# Altium schematic symbol library Diversos.SchLib: 51 symbols
Pins are listed as number, name and electrical type; pins without a type are passive.

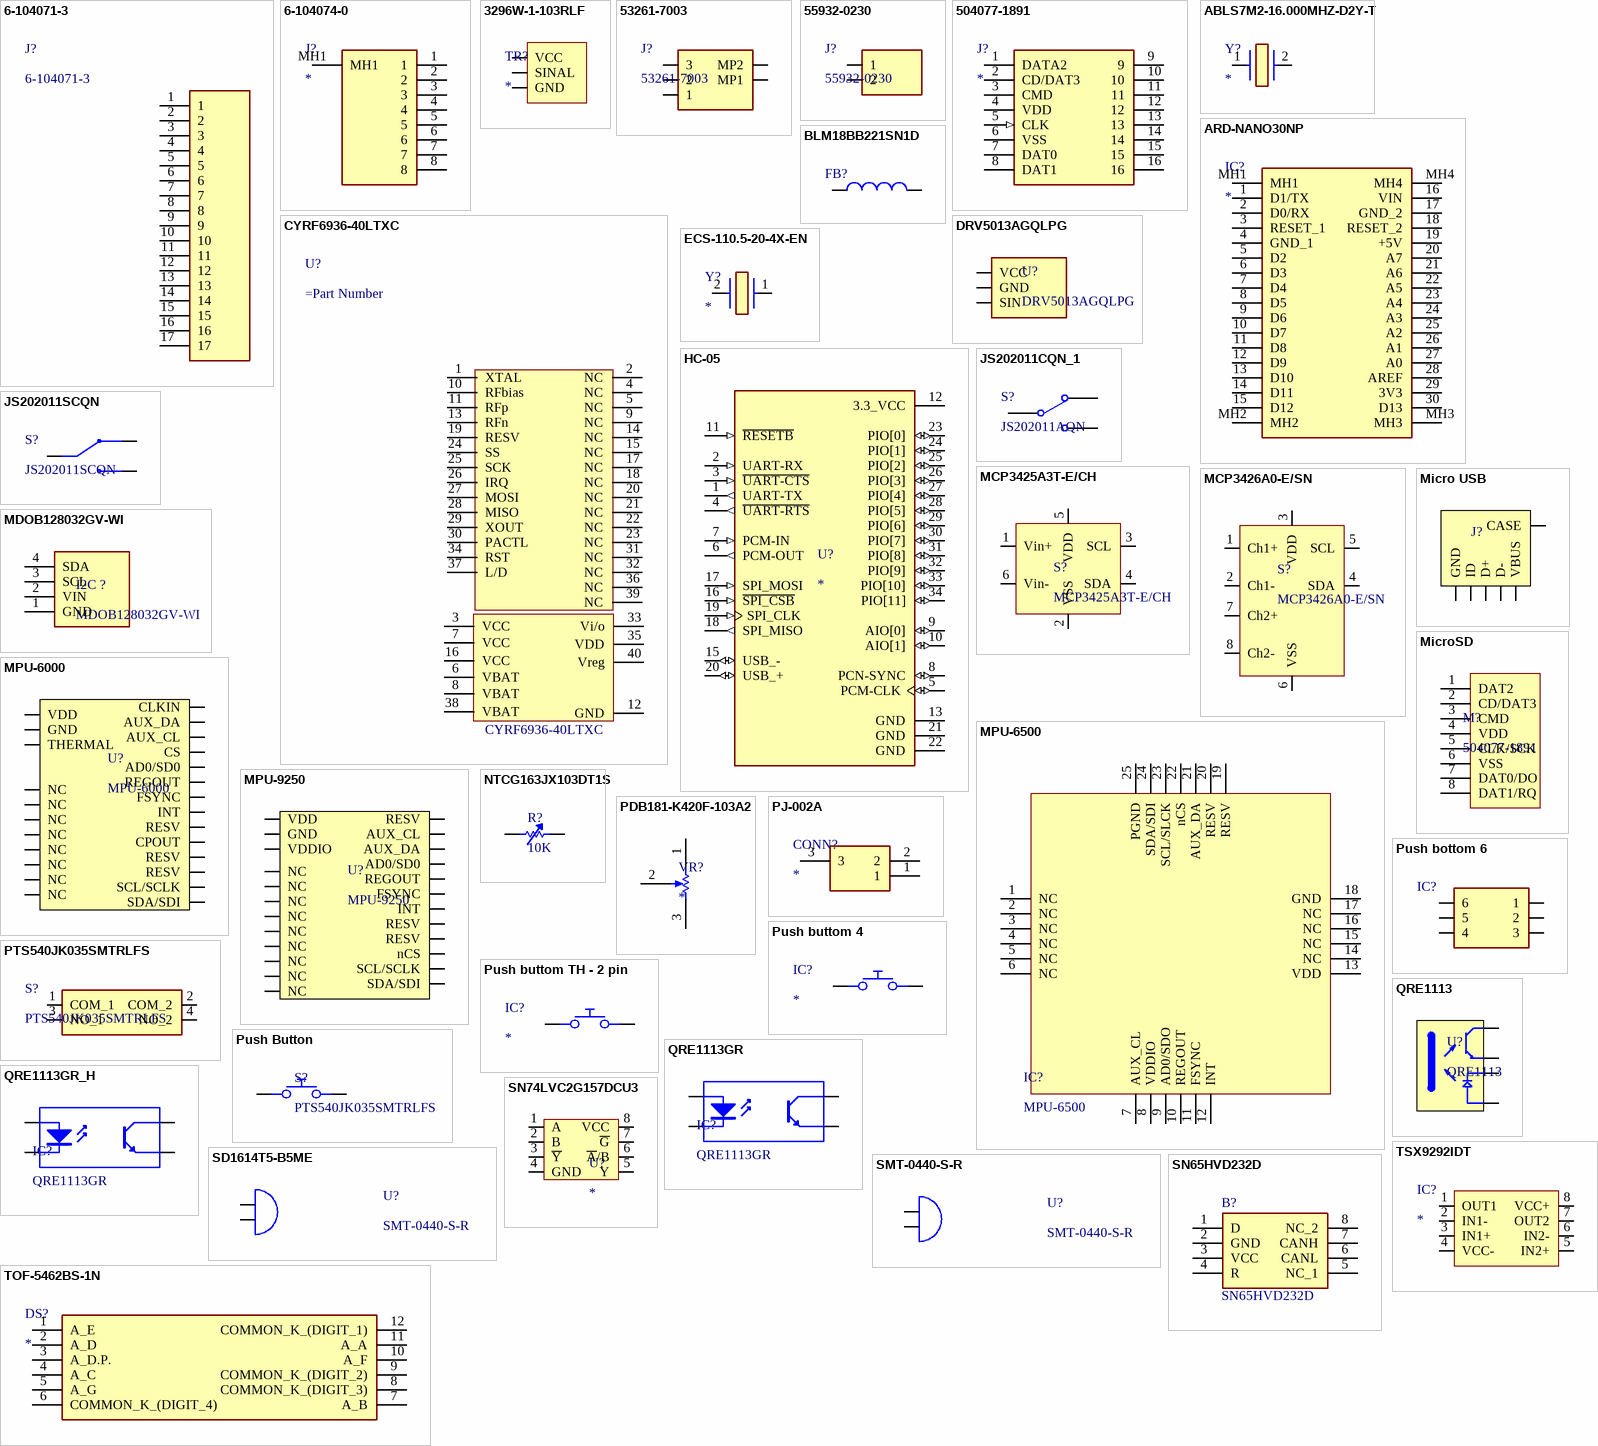
[diagram p0: symbols 6-104071-3 to TSX9292IDT]

## 6-104071-3
designator J?
Conectores placa placa e Mezzanine 17 SYSTEM 50 HDR SRST SHRD SN; Manufacturer_Name: TE Connectivity; Manufacturer Series: 104071; Connector Type: BOARD CONNECTOR; Option: General Purpose; Body/Shell Style: PLUG; Contact Pattern: RECTANGULAR; Contact Resistance: 15mR; Contact Style: RND PIN-SKT; Dielectric Withstanding Voltage (AC): 500V; Filter Feature: No; Insertion Force-Max: 1.39N; Insulation Resistance: 5GR; Number Of Connectors: 1; Polarization Key: CENTER; Number of Contacts: 17; Withdrawl Force-Min: 0.2224N; Body Breadth: 0.244inch; Body Depth: 0.39inch; Body Length: 1.094inch; Mating Contact Pitch: 0.05inch; Mounting Option 1: LOCKING; Plating Thickness: 30uin; Reference Standard: UL; Reliability: COMMERCIAL; Datasheet Link: https://www.te.com/commerce/DocumentDelivery/DDEController?Action=showdoc&DocId=Customer+Drawing%7F104071%7FR%7Fpdf%7FEnglish%7FENG_CD_104071_R.pdf%7F6-104071-3; Height: 9.99mm; Manufacturer_Part_Number: 6-104071-3; Supplier: Arrow Electronics; Supplier Part Number: 6-104071-3; Manufacturer: TE Connectivity; Manufacturer Part Number: 6-104071-3; RoHS: Yes; Category: Connectors; Stock: 1311; Pricing: 19=3,652, 114=3,509, 266=3,233, 513=3,014 (USD); Mounting Technology: Board; Contact Material: Bronze; Contact Finish - Mating: NOT SPECIFIED; Contact Finish - Termination: TIN OVER NICKEL; Insulation Color: Black; Insulation Material: Glass; Min Operating Temperature: -65°C; Max Operating Temperature: 105°C; JESD-609 Code: e3; Contact Gender: Male; Mixed Contacts: No; Mounting Style: STRAIGHT; Number Of PCB Rows: 1; Number of Rows Loaded: 1; PCB Contact Pattern: RECTANGULAR; Termination: Solder; Terminal Length: 0.1inch; Terminal Pitch: 1.27mm; DIN Conformance: No; IEC Conformance: No; MIL Conformance: No; Reach SVHC Compliant: Yes; RoHS Compliant: Yes; ComponentLink1URL: https://www.te.com:443/usa-en/product-6-104071-3.html?src-supplier=IHS+Markit; ComponentLink1Description: https://www.te.com:443/usa-en/product-6-104071-3.html?src-supplier=IHS+Markit; ComponentLink2URL: https://datasheet.ciiva.com/409/eng-cd-104071-p-basefilename-409577.pdf?src-supplier=Digikey; ComponentLink2Description: https://datasheet.ciiva.com/409/eng-cd-104071-p-basefilename-409577.pdf?src-supplier=Digikey
footprint 61040713
pins: 1, 2, 3, 4, 5, 6, 7, 8, 9, 10, 11, 12, 13, 14, 15, 16, 17

## 6-104074-0
designator J?
Connector; Manufacturer_Name: TE Connectivity; Manufacturer_Part_Number: 6-104074-0; Datasheet Link: https://www.te.com/commerce/DocumentDelivery/DDEController?Action=showdoc&DocId=Customer+Drawing%7F104074%7FV%7Fpdf%7FEnglish%7FENG_CD_104074_V.pdf%7F6-104074-0; Height: 6.48mm; Arrow Part Number: 6-104074-0; Arrow Price/Stock: https://www.arrow.com/en/products/6-104074-0/te-connectivity
footprint 6-104074-0
pins: 1, 2, 3, 4, 5, 6, 7, 8, MH1

## 3296W-1-103RLF
designator TR?
Trimmer Resistor; Manufacturer: Bourns; Manufacturer_Part_Number: 3296W-1-103RLF; Mouser Part Number: 652-3296W-1-103RLF; Arrow Price/Stock: https://www.arrow.com/en/products/3296w-1-103rlf/bourns?region=nac; ComponentLink1Description: Mouser Link; ComponentLink1URL: https://www.mouser.com/ProductDetail/Bourns/3296W-1-103RLF?qs=2bTIwLLrckTSiNyA4dRdUg%3D%3D
footprint 3296W-1_TRIMMER
pins: PIN1 VCC, PIN2 SINAL, PIN3 GND

## 53261-7003
designator J?
Connector 1.25mm; Manufacturer: Molex; Library Control - Person that did the Last Update Footprint: Pierre; Part Number: 53261-7003; Height: 3.4mm; ComponentLink1Description: Mouser Link; ComponentLink1URL: https://br.mouser.com/ProductDetail/Molex/53261-7003?qs=0lSvoLzn4L%252ByXluk5e2iEQ%3D%3D; ComponentLink2Description: Datasheet Link; ComponentLink2URL: https://br.mouser.com/datasheet/2/276/2/0532617003_PCB_HEADERS-1906897.pdf; Library Control - Person that did the Last Update Schematic: Pierre
footprint 532617003
pins: 1, 2, 3, MP1, MP2

## 55932-0230
designator J?
Connector 3A 250V; Manufacturer: Molex; Library Control - Person that did the Last Update Footprint: Pierre; Part Number: 55932-0230; Operating Temperature: -25C ~ +105C; ComponentLink1Description: Mouser Link; ComponentLink1URL: https://br.mouser.com/ProductDetail/Molex/55932-0230?qs=9Wl4wMk6Njr3Nh%252Bv5Cn1PQ%3D%3D; ComponentLink2Description: Datasheet Link; ComponentLink2URL: https://br.mouser.com/datasheet/2/276/3/0559320230_PCB_HEADERS-2833187.pdf; Current Rating: 3A; Voltage Rating: 250 V; Library Control - Person that did the Last Update Schematic: Pierre
footprint 55932-0230
pins: 1, 2

## 504077-1891
designator J?
Connector; Manufacturer_Name: Molex; Manufacturer_Part_Number: 504077-1891; Datasheet Link: https://componentsearchengine.com//504077-1891.pdf; Height: 1mm; Mouser2 Part Number: 538-504077-1891; Mouser2 Price/Stock: https://www.mouser.com/Search/Refine.aspx?Keyword=538-504077-1891
pins: 1 DATA2, 2 CD/DAT3, 3 CMD, 4 VDD (power), 5 CLK (in), 6 VSS (power), 7 DAT0, 8 DAT1, 9, 10, 11, 12, 13, 14, 15, 16

## ABLS7M2-16.000MHZ-D2Y-T
designator Y?
Crystal or Oscillator; Manufacturer_Name: ABRACON; Manufacturer_Part_Number: ABLS7M2-16.000MHZ-D2Y-T; Datasheet Link: https://abracon.com/Resonators/ABLS7M2.pdf; Height: 2.3mm; Mouser Part Number: 815-ABLS7M216MHZD2YT; Mouser Price/Stock: https://www.mouser.co.uk/ProductDetail/ABRACON/ABLS7M2-16.000MHZ-D2Y-T?qs=r5DSvlrkXmLBsAJ1cVK5MQ%3D%3D
footprint ABLS7
pins: 1, 2

## ARD-NANO30NP
designator IC?
Integrated Circuit; Manufacturer_Name: Gravitech; Manufacturer_Part_Number: ARD-NANO30NP; Datasheet Link: http://www.mouser.com/datasheet/2/595/Arduino_Nano3_0-220057.pdf; Height: 5mm; Mouser Part Number: 992-ARD-NANO30NP; Mouser Price/Stock: https://www.mouser.co.uk/ProductDetail/Gravitech/ARD-NANO30NP?qs=Vxac6xGyzPlh7in3DWNTbQ%3D%3D
pins: 1 D1/TX, 2 D0/RX, 3 RESET_1, 4 GND_1, 5 D2, 6 D3, 7 D4, 8 D5, 9 D6, 10 D7, 11 D8, 12 D9, 13 D10, 14 D11, 15 D12, 16 VIN, 17 GND_2, 18 RESET_2, 19 +5V, 20 A7, 21 A6, 22 A5, 23 A4, 24 A3, 25 A2, 26 A1, 27 A0, 28 AREF, 29 3V3, 30 D13, MH1, MH2, MH3, MH4

## BLM18BB221SN1D
designator FB?, comment 220R  (value not drawn)
FERRITE BEADS 220 OHM 25% 0.450A 0603; Manufacturer: Murata; Part Number: BLM18BB221SN1D; DC Resistance (Max): 450mR; Test Frequency: 100MHz; Current Rating (Max): 450mA; Library Control - Checked Footprint: Yes; Library Control - Last Project that Used: Follow-Final; Library Control - Person that Checked Footprint: Lucas; Library Control - Person that did the Last Update Footprint: Mateus(Dimas); Supplier 1: Mouser; Category: Ferrite Beads; Price: 1=0,10000, 10=0,07900, 100=0,04750 (USD); Package / Case: 0603 (1608 Metric); Operating Temperature: -55°C ~ 125°C; Value: 220R; Tolerance: 25%; Supplier Part Number 1: 81-BLM18BB221SN1D; Library Ref: Ferrite Beads; Size / Dimension: 1.6 mm L x  0.8 mm W x  0.8 mm H; Library Control - Checked Schematic: Yes; Library Control - Last Update: 24/04/2021 00:25; Library Control - Person that Checked Schematic: Lucas; Library Control - Person that did the Last Update Schematic: Mateus(Dimas); ComponentLink1Description: Datasheet; ComponentLink1URL: https://www.mouser.com/datasheet/2/281/ENFA0003-1915778.pdf; ComponentLink2Description: Mouser Link; ComponentLink2URL: https://www.mouser.com/ProductDetail/Murata-Electronics/BLM18BB221SN1D?qs=%2Fha2pyFadujXusLUPa7XwiO7x8JP5OqyGPyEjVcW%252Bu%252B5sAZk3PVlbA%3D%3D
footprint BEAD0603 (Ferrite Bead, Chip; 1.60 mm L X 0.80 mm W X 0.95 mm H body)
pins: 1, 2

## CYRF6936-40LTXC
designator U?
Transmissor-Receptor RF Wireless USB
pins: 1 XTAL, 2 NC, 3 VCC, 4 NC, 5 NC, 6 VBAT, 7 VCC, 8 VBAT, 9 NC, 10 RFbias, 11 RFp, 12 GND, 13 RFn, 14 NC, 15 NC, 16 VCC, 17 NC, 18 NC, 19 RESV, 20 NC, 21 NC, 22 NC, 23 NC, 24 SS, 25 SCK, 26 IRQ, 27 MOSI, 28 MISO, 29 XOUT, 30 PACTL, 31 NC, 32 NC, 33 Vi/o, 34 RST, 35 VDD, 36 NC, 37 L/D, 38 VBAT, 39 NC, 40 Vreg

## DRV5013AGQLPG
designator U?
Hall Sensor; Sensitivity: +/- 45°; Output Type: Digital; Operating Supply Current: 0.4 mA; Supply Voltage (Min - Máx): (2.7 - 5.5)V; Library Control - Person that did the Last Update in Footprint: Marcos; ComponentLink1Description: Datasheet; ComponentLink1URL: https://datasheetspdf.com/pdf-file/700398/ETC/VS1838B/1; ComponentLink2Description: Mouser Link; ComponentLink2URL: -; Part Number: DRV5013AGQLPG; Sensor Type: Hall Sensor; Price: -; Package / Case: -; Operating Temperature (Min - Máx): -20~80 °C; Supplier 1: -; Manufacturer: -; Library Ref: Diversos; Library Control - Last Update: 06/08/2021; Library Control - Person that did the Last Update in Schematic: Marcos
footprint SENSOR_DRV5055A2QLPGM
pins: 1 VCC, 2 GND, 3 SIN

## ECS-110.5-20-4X-EN
designator Y?
Crystal or Oscillator; Manufacturer_Name: ECS; Manufacturer_Part_Number: ECS-110.5-20-4X-EN; Datasheet Link: https://ecsxtal.com/store/pdf/hc-49usx.pdf; Height: 3.5mm
footprint ECS1105204XEN
pins: 1, 2 CRYSTAL_2

## HC-05
designator U?
Bluetooth to Serial Port Module; MP: HC-05; Value: *; Price: None; Package: None; Availability: Unavailable
pins: 1 UART-TX (out), 2 UART-RX (in), 3 ~{UART-CTS} (in), 4 ~{UART-RTS} (out), 5 PCM-CLK (io), 6 PCM-OUT (out), 7 PCM-IN (in), 8 PCN-SYNC (io), 9 AIO[0] (io), 10 AIO[1] (io), 11 ~{RESETB} (in), 12 3.3_VCC (power), 13 GND (power), 15 USB_- (io), 16 ~{SPI_CSB} (in), 17 SPI_MOSI (in), 18 SPI_MISO (out), 19 SPI_CLK (in), 20 USB_+ (io), 21 GND (power), 22 GND (power), 23 PIO[0] (io), 24 PIO[1] (io), 25 PIO[2] (io), 26 PIO[3] (io), 27 PIO[4] (io), 28 PIO[5] (io), 29 PIO[6] (io), 30 PIO[7] (io), 31 PIO[8] (io), 32 PIO[9] (io), 33 PIO[10] (io), 34 PIO[11] (io)

## JS202011CQN_1
designator S?, comment JS202011AQN
SLIDE SWITCH DPDT 0.3A 30VDC THRU ROLE; Manufacturer: C&K Switches; Voltage Rating (DC): 6VDC; Current Rating: 300mA; Switch Function: On-On; Library Control - Checked Footprint: Yes; Library Control - Last Project that Used: Follow-Final; Library Control - Person that did the Last Update Footprint: Lucas; Supplier 1: Mouser; Part Number: JS202011AQN; Category: Slide Switches; Pricing 1: 1=0,450, 25=0,421, 100=0,357 (USD); Throw Configuration: DPDT; Orientation: Horizontal; Supplier Part Number 1: 611-JS202011AQN; Library Ref: Slide Switches; Library Control - Checked Schematic: Yes; Library Control - Last Update: 30/10/2021 23:13; Library Control - Person that did the Last Update Schematic: Lucas; ComponentLink1Description: Datasheet; ComponentLink1URL: https://br.mouser.com/datasheet/2/60/js-1841892.pdf; ComponentLink2Description: Mouser Link; ComponentLink2URL: https://br.mouser.com/ProductDetail/CK/JS202011CQN?qs=%2Fha2pyFadujEk0HYYCwwdCngFEJLgpLwbgeFG0CLXqejQrlcBWDxEg%3D%3D
footprint SOIC6_THRU_HOLE
pins: 1, 2 NO, C COMMON

## JS202011SCQN
designator S?
DEEP SWITCH 4 POSITIONS; Manufacturer: C&K; Current Rating: 300 mA; Voltage Rating DC: 30 VDC; Switch Function: ON - ON; Library Control - Checked Footprint: Yes; Library Control - Person that Checked Footprint: Nikaum; Part Number: JS202011SCQN; Operating Temperature(max - min): -20~70°C; Supplier: Mouser; ComponentLink1Description: Mouser Link; ComponentLink1URL: https://br.mouser.com/ProductDetail/CK/JS202011SCQN?qs=LgMIjt8LuD95JYWxZ7NvZA%3D%3D; ComponentLink2Description: Datasheet Link; ComponentLink2URL: https://www.mouser.com/datasheet/2/60/js-1841892.pdf; Mouser Part Number: 611-JS202011SCQN; Library Ref: Diversos; Library Control - Last Update: 15/06/2021; Library Control - Person that Checked Schematic: Nikaum; Library Control - Person that did the Last Update Footprint: Nikaum; Library Control - Person that did the Last Update Schematic: Nikaum; Library Control - Checked Schematic: Yes
footprint DPDT
pins: A1 1, A2 4, A3 3

## MCP3425A3T-E/CH
designator S?
ADC WITH I2C Single channel; Manufacturer: Microchip; Resolution: 16bits; Channels: 1; Library Control - Checked Footprint: Yes; Library Control - Person that Checked Footprint: Bob; Part Number: MCP3425A3T-E/CH; Operating Temperature(max - min): -40~125°C; Supplier: Mouser; ComponentLink1Description: Mouser Link; ComponentLink1URL: https://br.mouser.com/ProductDetail/Microchip-Technology/MCP3425A3T-E-CH?qs=OCR3PNzn1cdvcuGtJJWFOw%3D%3D; ComponentLink2Description: Datasheet Link; ComponentLink2URL: https://br.mouser.com/datasheet/2/268/22072b-737551.pdf; Mouser Part Number: 579-MCP3426A0E/SN; Library Ref: Diversos; Library Control - Last Update: 11/09/2021; Library Control - Person that Checked Schematic: Bob; Library Control - Person that did the Last Update Footprint: Bob; Library Control - Person that did the Last Update Schematic: Bob; Library Control - Checked Schematic: Yes
footprint SOT23__6 (SOT23, 6-Leads, Body 2,90x2,70mm, Pitch 0,95mm, IPC Medium Density)
pins: 1 Vin+ (oe), 2 VSS (power), 3 SCL (oe), 4 SDA (oe), 5 VDD (power), 6 Vin- (power)

## MCP3426A0-E/SN
designator S?
ADC WITH I2C Dual channel; Manufacturer: Microchip; Resolution: 16bits; Channels: 2; Library Control - Checked Footprint: Yes; Library Control - Person that Checked Footprint: Bob; Part Number: MCP3426A0-E/SN; Operating Temperature(max - min): -40~125°C; Supplier: Mouser; ComponentLink1Description: Mouser Link; ComponentLink1URL: https://br.mouser.com/ProductDetail/Microchip-Technology/MCP3426A0-E-SN?qs=icxrp76fIjCAC6FqOOR0uQ%3D%3D; ComponentLink2Description: Datasheet Link; ComponentLink2URL: https://br.mouser.com/datasheet/2/268/22226a-81911.pdf; Mouser Part Number: 579-MCP3426A0E/SN; Library Ref: Diversos; Library Control - Last Update: 11/09/2021; Library Control - Person that Checked Schematic: Bob; Library Control - Person that did the Last Update Footprint: Bob; Library Control - Person that did the Last Update Schematic: Bob; Library Control - Checked Schematic: Yes
footprint SOIC____8
pins: 1 Ch1+ (oe), 2 Ch1- (power), 3 VDD (power), 4 SDA (oe), 5 SCL (oe), 6 VSS (power), 7 Ch2+ (oe), 8 Ch2- (power)

## MDOB128032GV-WI
designator I2C ?
Oled Display, Cob, 128 X 32 Pixel, 3V Rohs Compliant: Yes; Manufacturer: Midas; Supplier: Newark; Supplier Part Number: 69AH1025; Manufacturer Part Number: MDOB128032GV-WI; RoHS: No; Category: LDO; Pricing: 1=10,72, 10=9,66, 25=8,79, 50=8,18, 140=7,63, 280=6,42, 560=6,21 (USD)
footprint MDOB128032GVWI
pins: 1 GND, 2 VIN, 3 SCL, 4 SDA

## Micro USB
designator J?, comment 54819-0572  (value not drawn)
JACK  MICRO USB 5 PIN SMD; Manufacturer: Molex; Gender: Jack (Female); Number of Contacts: 5; Number of Ports: 1; Current Rating: 1A; Library Control - Checked Footprint: Yes; Library Control - Person that Checked Footprint: Nikaum; Voltage Rating: 30V; ComponentLink1Description: Datasheet; ComponentLink1URL: https://www.mouser.com/datasheet/2/276/0548190572_IO_CONNECTORS-228789.pdf; ComponentLink2Description: Mouser Link; ComponentLink2URL: https://www.mouser.com/ProductDetail/Molex/54819-0572?qs=%2Fha2pyFaduhSjmXTlh7uTKb4u%252BU9CG7lIY8IPbUrigz%252BPRMQHLgocQ%3D%3D&utm_source=octopart&utm_medium=aggregator&utm_campaign=538-54819-0572&utm_content=Molex; Part Number: 54819-0572; Price: 1=1,40, 10=1,20 100=1,03 500 = 0,981 (USD); Termination Type: SMD/SMT; Supplier 1: Mouser; Library Ref: Diversos; Supplier Part Number 1: 538-54819-0572; Library Control - Checked Schematic: Yes; Library Control - Last Update: 15/06/2021; Library Control - Person that Checked Schematic: Nikaum; Library Control - Person that did the Last Update in the Schematic: Nikaum; Library Control - Person that did the Last Update in Footprint: Nikaum; Operating Temperature: -20~85°C
footprint Micro USB
pins: CASE, D+, D-, GND, ID, VBUS

## MicroSD
designator M?, comment 504077-1891
Memory Card Connectors 1.28MM microSD W/ DET SWITCH PUSH/PULL; Current Rating:: 500 mA; Voltage Rating: 10 VAC/DC; Insertion - Extraction Style:: Push-Pull; Link Mouser: https://www.mouser.com/ProductDetail/Molex/504077-1891?qs=sGAEpiMZZMuJakaoiLiBpjAZE32GLbPV14vUl7eUuSw%3d; Mfr: 504077-1891; Mouser: 538-504077-1891
footprint MicroSD
pins: 1 DAT2, 2 CD/DAT3, 3 CMD, 4 VDD, 5 CLK/SCK, 6 VSS, 7 DAT0/DO, 8 DAT1/RQ

## MPU-6000
designator U?
IMU 6 AXIS; Manufacturer: TDK; Sensor Type: 9 axis; Sensing Axis: X, Y, Z; Sensitivity: 340 LSB/C; Aceleration: 1000g; Output Type: Digital; Interferance Type: I2C, SPI; Operating Supply Current: 3.9 mA; Supply Voltage (Min - Máx): (2.375 - 3.46)V; ComponentLink1Description: Datasheet; ComponentLink1URL: https://product.tdk.com/system/files/dam/doc/product/sensor/mortion-inertial/imu/data_sheet/mpu-6000-datasheet1.pdf; ComponentLink2Description: Mouser Link; ComponentLink2URL: https://www.mouser.com/ProductDetail/TDK-InvenSense/MPU-6000?qs=u4fy%2FsgLU9NMLimeLRzXLA%3D%3D; Part Number: MPU-6000; Price: 1=10,42, 10=7,72, 100=6,68, 500=6,05, 1000=5,84 (USD); Package / Case: Lead QFN (4x4x0.9) mm; Operating Temperature (Min - Máx): -40~105 °C; Supplier 1: Mouser; Library Ref: Diversos
footprint QFN 24 PIN THERMAL PAD (QFN, 24-Leads, Body 4,00x4,00mm, Pitch 0,50mm, Thermal Pad 2,70x2,60mm, IPC Medium Density)
pins: 1 CLKIN, 2 NC, 3 NC, 4 NC, 5 NC, 6 AUX_DA, 7 AUX_CL, 8 CS, 9 AD0/SD0, 10 REGOUT, 11 FSYNC, 12 INT, 13 VDD, 14 NC, 15 NC, 16 NC, 17 NC, 18 GND, 19 RESV, 20 CPOUT, 21 RESV, 22 RESV, 23 SCL/SCLK, 24 SDA/SDI, 25 THERMAL

## MPU-6500
designator IC?
IC IMU QFN-24; Manufacturer: TDK InvenSense; Sensitivity Accelerometer: 16,384 LSB/g; Operating Current: 3.4mA; Interface: I2C,SPI; Sensor Type: Accelerometer,Gyroscope; Output Type: SPI,I2C; Voltage - Supply (Vcc/Vdd): 1.8V ~ 3.45V; Sensitivity Gyroscope: 131 LSB/(º/s); Output Data Rate: 4 ~8kHz; Library Control - Checked Footprint: Yes; Library Control - Last Project that Used: Follow-Final; Library Control - Person that Checked Footprint: Lucas; Library Control - Person that did the Last Update Footprint: Mateus(Dimas); Supplier 1: Mouser; Part Number: MPU-6500; Category: IMU; Price: 1=10,70000, 10=6,25000, 100=4,44000 (USD); Package / Case: QFN; Number of Pins: 24; Operating Temperature: -40°C ~ 85°C; Supplier Part Number 1: 410-MPU-6500; Library Ref: IMU; Library Control - Checked Schematic: Yes; Library Control - Last Update: 24/04/2021 00:25; Library Control - Person that Checked Schematic: Lucas; Library Control - Person that did the Last Update Schematic: Mateus(Dimas); ComponentLink1Description: Datasheet; ComponentLink1URL: https://product.tdk.com/system/files/dam/doc/product/sensor/mortion-inertial/imu/data_sheet/mpu-6500-datasheet2.pdf; ComponentLink2Description: Mouser Link; ComponentLink2URL: https://br.mouser.com/ProductDetail/TDK-InvenSense/MPU-6500?qs=%2Fha2pyFaduiFYun0tbEnCyCEEjzUGy3WfinWkz%252Bf8Ic%3D
footprint QFN24 (3x3x1) mm
pins: 1 NC, 2 NC, 3 NC, 4 NC, 5 NC, 6 NC, 7 AUX_CL, 8 VDDIO, 9 AD0/SDO, 10 REGOUT, 11 FSYNC, 12 INT, 13 VDD, 14 NC, 15 NC, 16 NC, 17 NC, 18 GND, 19 RESV, 20 RESV, 21 AUX_DA, 22 nCS, 23 SCL/SLCK, 24 SDA/SDI, 25 PGND

## MPU-9250
designator U?
IMU 9 AXIS; Manufacturer: TDK InvenSense; Sensor Type: 9 axis; Sensing Axis: X, Y, Z; Sensitivity: 333.87 LSB/°C; Aceleration: 10000 g; Output Type: Digital; Interferance Type: I2C, SPI; Operating Supply Current: 3.7 mA; Supply Voltage (Min - Máx): (2.4 - 3.6)V; Library Control - Checked Footprint: Yes; Library Control - Person that Checked Footprint: Nikaum; ComponentLink1Description: Datasheet; ComponentLink1URL: https://product.tdk.com/system/files/dam/doc/product/sensor/mortion-inertial/imu/data_sheet/ps-mpu-9250a-01-v1.1.pdf; ComponentLink2Description: Mouser Link; ComponentLink2URL: https://br.mouser.com/ProductDetail/TDK-InvenSense/MPU-9250?qs=u4fy%2FsgLU9OhGjFkQSZssA%3D%3D; Part Number: MPU-9250; Package / Case: Lead QFN (3x3x1) mm; Operating Temperature (Min - Máx): -40~85 °C; Supplier 1: Mouser; Library Ref: Diversos; Library Control - Checked Schematic: Yes; Library Control - Last Update: 15/06/2021; Library Control - Person that Checked Schematic: Nikaum; Library Control - Person that did the Last Update in Footprint: Nikaum; Library Control - Person that did the Last Update in Schematic: Nikaum
footprint QFN24 (3x3x1) mm
pins: 1 RESV, 2 NC, 3 NC, 4 NC, 5 NC, 6 NC, 7 AUX_CL, 8 VDDIO, 9 AD0/SD0, 10 REGOUT, 11 FSYNC, 12 INT, 13 VDD, 14 NC, 15 NC, 16 NC, 17 NC, 18 GND, 19 RESV, 20 RESV, 21 AUX_DA, 22 nCS, 23 SCL/SCLK, 24 SDA/SDI

## NTCG163JX103DT1S
designator R?, comment 10K
Thermistor NTC SMD 10K OHM 0.5%  0603; Manufacturer: TDK; Manufacturer Part Number: NTCG163JX103DT1S; Value: 10kR; Supplier: Mouser; Supplier Part Number: 810-NTCG163JX103DT1S; RoHS: No; Category: Thermistors; Stock: 23090; Pricing: 1=0,41, 10=0,265, 50=0,265, 100=0,226, 1000=0,168, 10000=0,134 (USD); Mounting Technology: Surface Mount; Case/Package: 0603; Case Code (Metric): 1608; Case Code (Imperial): 0603; Min Operating Temperature: -40°C; Max Operating Temperature: 150°C; Packaging: Cut Tape; Series: Automotive, AEC-Q200, NTCG; Resistance Tolerance: 0.5%; Length: 1.6mm; Width: 800um; RoHS Compliant: Yes; ComponentLink1URL: https://product.tdk.com/info/en/catalog/datasheets/503022/tpd_automotive_ntc-thermistor_ntcg_en.pdf?ref_disty=digikey&src-supplier=Digi-Key; ComponentLink1Description: https://product.tdk.com/info/en/catalog/datasheets/503022/tpd_automotive_ntc-thermistor_ntcg_en.pdf?ref_disty=digikey&src-supplier=Digi-Key; ComponentLink2URL: https://product.tdk.com/info/en/catalog/datasheets/503022/tpd_automotive_ntc-thermistor_ntcg_en.pdf?src-supplier=Digi-Key; ComponentLink2Description: https://product.tdk.com/info/en/catalog/datasheets/503022/tpd_automotive_ntc-thermistor_ntcg_en.pdf?src-supplier=Digi-Key; ComponentLink3Description: Mouser; ComponentLink3URL: https://br.mouser.com/ProductDetail/TDK/NTCG163JX103DT1S?qs=cNoPOocMWw12jzbe5%2FwkmA%3D%3D; ComponentLink4Description: Datasheet; ComponentLink4URL: https://product.tdk.com/system/files/dam/doc/product/sensor/ntc/chip-ntc-thermistor/catalog/tpd_automotive_ntc-thermistor_ntcg_en.pdf
footprint RESISTOR_0603
pins: 1, 2

## PDB181-K420F-103A2
designator VR?
Variable Resistor; Manufacturer_Name: Bourns; Height: 21mm; Mouser Price/Stock: https://www.mouser.co.uk/ProductDetail/Bourns/PDB181-K420F-103A2?qs=HVbQlW5zcXU4kIrRlkm6hQ%3D%3D; Arrow Part Number: PDB181-K420F-103A2; Arrow Price/Stock: https://www.arrow.com/en/products/pdb181-k420f-103a2/bourns?region=nac
footprint PDB181K420F103A2
pins: 1, 2, 3

## PJ-002A
designator CONN?
Connetor J; Manufacturer_Name: CUI Devices; Manufacturer_Part_Number: PJ-002A; Type: Connector; Mouser Part Number: 490-PJ-002A; ComponentLink1Description: Mouser Link; ComponentLink1URL: https://www.mouser.com/ProductDetail/CUI-Devices/PJ-002A?qs=WyjlAZoYn51CKfAix9Mngw%3D%3D
footprint PJ002A_CONECTOR_J
pins: 1, 2, 3

## PTS540JK035SMTRLFS
designator S?
Tactile Switche; Manufacturer: C&K; Current Rating: 30 mA; Voltage Rating: 12 V; Library Control - Person that did the Last Update Schematic: Pierre; Part Number: PTS540JK035SMTRLFS; ComponentLink1Description: Mouser Link; ComponentLink1URL: https://br.mouser.com/ProductDetail/CK/PTS540JK035SMTRLFS?qs=nsc5Ve2%252BdoHscnqTjIh87g%3D%3D; ComponentLink2Description: Datasheet Link; ComponentLink2URL: https://br.mouser.com/datasheet/2/60/pts540-1841856.pdf; Operating Temperature: -30C ~ +85C; Library Control - Person that did the Last Update Footprint: Pierre
footprint PTS540JK035SMTRLFS
pins: 1 COM_1, 2 COM_2, 3 NO_1, 4 NO_2

## Push bottom 6
designator IC?
Push bottom 6 posições
footprint MHPS2283 (Pushbutton)
pins: 1, 2, 3, 4, 5, 6

## Push buttom 4
designator IC?
Push buttom; Manufacturer_Name: CUI Inc.; Manufacturer_Part_Number: TS02-66-90-BK-100-SCR-D; Datasheet Link: https://www.cuidevices.com/product/resource/ts02.pdf; Height: 9.2mm
footprint TS026690BK100SCRD
pins: 1, 2

## Push buttom TH - 2 pin
designator IC?
Push buttom true hole with 2 pin; Manufacturer_Name: CUI Inc.; Manufacturer_Part_Number: TS02-66-90-BK-100-SCR-D; Height: 9.2mm; ComponentLink1Description: Datasheet; ComponentLink1URL: https://www.gravitech.us/mipubusw2qt4.html
footprint BUTTON - TH - 2PIN
pins: 1, 2

## Push Button
designator S?, comment PTS540JK035SMTRLFS
TACTILE SWITCH SPST 0.05A 12VDC SMD; Manufacturer: C&K Switches; Voltage Rating (DC): 12V; Current Rating: 50mA; Switch Function: Off-On; Operating Force: 230gf; Library Control - Checked Footprint: Yes; Library Control - Person that Checked Schematic: Nícolas; Bounce time (MAX): 10ms; ComponentLink1Description: Datasheet; ComponentLink1URL: https://www.mouser.com/datasheet/2/60/pts540-1841856.pdf; ComponentLink2Description: Mouser Link; ComponentLink2URL: https://www.mouser.com/ProductDetail/CK/PTS540JK035SMTRLFS?qs=nsc5Ve2%252BdoHscnqTjIh87g%3D%3D; Supplier 1: Mouser; Part Number: PTS540JK035SMTRLFS; Category: Tactile Switches; Pricing 1: 1=0,18, 10=0,174, 100=0,15, 500=0,122, 1000=0,103 (USD); Throw Configuration: SPST; Orientation: Straight; Supplier Part Number 1: 611-PTS540JK035SMTRL; Library Ref: Diversos; Library Control - Checked Schematic: Yes; Library Control - Person that Checked Footprint: Nícolas; Library Control - Person that did the Last Update Schematic: Nícolas
footprint PUSH_BUTTON
pins: 1, 2

## QRE1113
designator U?
PHOTOTRANSISTORQRE1113 - 1CH - Tube; Manufacturer: ON Semiconductor; Sensing Distance: 1 mm; Collector - Emitter Voltage VCEO Max: 30 V; Maximum Collector Current: 20 mA; Sensing Method: Reflective; Power Dissipation: 75 mW; Vf - Forward Voltage: 1,2 V; Vr - Reverse Voltage: 5 V; Library Control - Checked Footprint: Yes; Library Control - Person that Checked Footprint: Nikaum; Fall time: 20 us; Number of Channels: 1; ComponentLink1Description: Datasheet; ComponentLink1URL: https://www.mouser.com/datasheet/2/308/1/QRE1113_D-2319742.pdf; ComponentLink2Description: Mouser Link; ComponentLink2URL: https://www.mouser.com/ProductDetail/ON-Semiconductor-Fairchild/QRE1113GR?qs=Qb0BA3xILekkPpSVC5x7uQ%3D%3D; Part Number: QRE1113; Price: 1=1.36, 10=1.13, 100=0.639 (USD); Mounting Style: Through Hole; Output Type: Phototransistor; Operating Temperature (Min - Máx): -40~85 °C; Supplier 1: Mouser; Library Ref: Diversos; Library Control - Checked Schematic: Yes; Library Control - Last Update: 15/06/2021; Library Control - Person that Checked Schematic: Nikaum; Library Control - Person that did the Last Update in Footprint: Nikaum; Library Control - Person that did the Last Update in Schematic: Nikaum; Packaging: Tube; If - Forward Current: 20 mA
footprint QRE1113
pins: A, C, CT, ET

## QRE1113GR
designator IC?
IC IR-SENSOR; Manufacturer: ON Semiconductor; Wavelength: 940nm; If - Forward Current Max: 50mA; Rise Time: 20us; Vf - Forward Voltage: 1.4V; Sensing Distance (máx): 5mm; Vce - Collector/Emitter Voltage Max: 30V; Ic - Collector Current Max: 20mA; Vr - Reverse Voltage: 5V; Pd - Power Dissipation:: 75mW; Library Control - Checked Footprint: Yes; Library Control - Last Project that Used: Follow-Final; Library Control - Person that Checked Footprint: Lucas; Library Control - Person that did the Last Update Footprint: Mateus(Dimas); Supplier 1: Mouser; Part Number: QRE1113GR; Category: Phototransistor; Price: 1=1,12000, 10=0,92900, 100=0,52700 (USD); Package / Case: SMD-4 Gull Wing; Operating Temperature: -25°C ~ 85°C; Supplier Part Number 1: 512-QRE1113GR; If - Forward Current: 20mA; Library Ref: Phototransistor; Library Control - Checked Schematic: Yes; Library Control - Last Update: 24/04/2021 00:25; Library Control - Person that Checked Schematic: Lucas; Library Control - Person that did the Last Update Schematic: Mateus(Dimas); ComponentLink1Description: Datasheet; ComponentLink1URL: https://br.mouser.com/datasheet/2/308/QRE1113_D-1814544.pdf; ComponentLink2Description: Mouser Link; ComponentLink2URL: https://br.mouser.com/ProductDetail/ON-Semiconductor-Fairchild/QRE1113GR?qs=Qb0BA3xILekkPpSVC5x7uQ%3D%3D
footprint SOIC4 (Small Outline IC (SOIC), 1.80 mm pitch; 4 pin, 3.40 mm L X 2.70 mm W X 1.70 mm H body)
pins: 1 A "Anode", 2 K "Cathode", 3 C "Collector", 4 E "Emitter"

## QRE1113GR_H
designator IC?, comment QRE1113GR
IC IR-SENSOR; Manufacturer: ON Semiconductor; Wavelength: 940nm; If - Forward Current Max: 50mA; Rise Time: 20us; Vf - Forward Voltage: 1.4V; Sensing Distance (máx): 5mm; Vce - Collector/Emitter Voltage Max: 30V; Ic - Collector Current Max: 20mA; Vr - Reverse Voltage: 5V; Pd - Power Dissipation:: 75mW; Library Control - Checked Footprint: Yes; Library Control - Last Project that Used: Follow-Final; Library Control - Person that Checked Footprint: Lucas; Library Control - Person that did the Last Update Footprint: Mateus(Dimas); Supplier 1: Mouser; Part Number: QRE1113GR; Category: Phototransistor; Price: 1=1,150, 10=0,955, 100=0,542 (USD); Package / Case: SMD-4 Gull Wing; Operating Temperature: -25°C ~ 85°C; Supplier Part Number 1: 512-QRE1113GR; If - Forward Curren t(test): 20mA; Library Ref: Phototransistor; Library Control - Checked Schematic: Yes; Library Control - Last Update: 24/04/2021 00:25; Library Control - Person that Checked Schematic: Lucas; Library Control - Person that did the Last Update Schematic: Mateus(Dimas); ComponentLink1Description: Datasheet; ComponentLink1URL: https://br.mouser.com/datasheet/2/308/QRE1113_D-1814544.pdf; ComponentLink2Description: Mouser Link; ComponentLink2URL: https://br.mouser.com/ProductDetail/ON-Semiconductor-Fairchild/QRE1113GR?qs=Qb0BA3xILekkPpSVC5x7uQ%3D%3D
footprint SOIC4- Head (Small Outline IC (SOIC), 1.80 mm pitch; 4 pin, 3.40 mm L X 2.70 mm W X 1.70 mm H body)
pins: 1 A "Anode", 2 K "Cathode", 3 C "Collector", 4 E "Emitter"

## SD1614T5-B5ME
designator U?, comment SMT-0440-S-R
BUZZER SD1614T5-B5ME - 85 dBA; Manufacturer: TDK; Frequency: 2048 Hz; Sound Pressure Level: 85 dBA; Voltage Rating: 5V; Library Control - Checked Footprint: Yes; Library Control - Person that Checked Footprint: Cage; ComponentLink1Description: Datasheet; ComponentLink1URL: https://product.tdk.com/system/files/dam/doc/product/sw_piezo/sw_piezo/em-buzzer/catalog/electromagnetic_buzzer_sd_en.pdf; ComponentLink2Description: Mouser Link; ComponentLink2URL: https://www.mouser.com/ProductDetail/TDK/SD1614T5-B5ME?qs=W0yvOO0ixfFFx4HV4HmQKQ%3D%3D; Part Number: SD1614T5-B5ME; Type: Electromagnetic; Price: 1 = 1.44, 10 = 1.21, 100 = 0.933 (USD); Packaging: Bulk; Self Resonant Frequency: 2048 Hz; Termination Style: Solder Pin; Mounting Style: Board Mount; Operating Temperature (Min - Máx): -; Supplier 1: Mouser; Library Ref: Diversos; Library Control - Checked Schematic: Yes; Library Control - Last Project that Used: -; Library Control - Last Update: 02/10/2022; Library Control - Person that Checked Schematic: Cage; Library Control - Person that did the Last Update in Footprint: Cage; Library Control - Person that did the Last Update in Schematic: Cage
footprint SD1614T5-B5ME
pins: 1, 2

## SMT-0440-S-R
designator U?
BUZZER SMT-0440-S-R - 70 dBA; Manufacturer: PUI Audio; Frequency: 4 kHz; Sound Pressure Level: 70 dBA; Voltage Rating: 3 V; Library Control - Checked Footprint: Yes; Library Control - Person that Checked Footprint: Nikaum; Library Control - Person that did the Last Update in Footprint: Janela; ComponentLink1Description: Datasheet; ComponentLink1URL: https://www.mouser.com/datasheet/2/334/SMT-0440-S-R-535654.pdf; ComponentLink2Description: Mouser Link; ComponentLink2URL: https://br.mouser.com/ProductDetail/PUI-Audio/SMT-0440-S-R?qs=%2Fha2pyFadujz%252BxM76atWYpkJ6H1l1BfZQ0Cf%252BsQgncQnAS3XRao7Rg%3D%3D; Part Number: SMT-0440-S-R; Type: Electromagnetic; Price: 1=3,46, 10=2.86, 100=2.33 (USD); Packaging: Cut Tape; Self Resonant Frequency: 4 kHz; Termination Style: Gullwing Lead; Mounting Style: Board Mount; Operating Temperature (Min - Máx): -20~70 °C; Supplier 1: Mouser; Library Ref: Diversos; Library Control - Checked Schematic: Yes; Library Control - Last Update: 15/06/2021; Library Control - Person that Checked Schematic: Nikaum; Library Control - Person that did the Last Update in Schematic: Nikaum
footprint SMT-0440-S-R
pins: 1, 2

## SN65HVD232D
designator B?
CAN Transceiver 1Mbit/s ISO 11898, 8-Pin SOIC; Manufacturer_Name: Texas Instruments; Geometry.Height: 1.75mm; Mouser Part Number: 595-SN65HVD232D; Mouser Price/Stock: https://www.mouser.co.uk/ProductDetail/Texas-Instruments/SN65HVD232D?qs=QViXGNcIEAueLIS9b8IyYg%3D%3D; Manufacturer_Part_Number: SN65HVD232D; Datasheet Link: http://www.ti.com/lit/ds/symlink/sn65hvd232.pdf
footprint SOIC127P600X175-8N
pins: 1 D, 2 GND, 3 VCC, 4 R, 5 NC_1, 6 CANL, 7 CANH, 8 NC_2

## SN74LVC2G157DCU3
designator U?
MUX Single Channel; ComponentLink1Description: Mouser Link; ComponentLink1URL: https://www.mouser.com/ProductDetail/Texas-Instruments/SN74LVC2G157DCU3?qs=gHXEOK8GIg8O401Jxts3yQ%3D%3D; ComponentLink2Description: Datasheet Link; ComponentLink2URL: https://www.ti.com/general/docs/suppproductinfo.tsp?distId=26&gotoUrl=http%3A%2F%2Fwww.ti.com%2Flit%2Fgpn%2FSN74LVC2G157
footprint VSSOP-8
pins: 1 A, 2 B, 3 ~{Y}, 4 GND, 5 Y, 6 ~{A}/B, 7 ~{G}, 8 VCC

## TOF-5462BS-1N
designator DS?
Display 7seg - 4 digitos; Manufacturer_Name: Lite-On; Manufacturer_Part_Number: LTC-5723HR; Datasheet Link: https://componentsearchengine.com//LTC-5723HR.pdf; Height: 8.25mm; Mouser2 Part Number: TOF-5462BS-1N; Mouser2 Price/Stock: https://www.mouser.com/Search/Refine.aspx?Keyword=859-LTC-5723HR; ComponentLink1Description: Datasheet; ComponentLink1URL: http://www.apex-tech.co.jp/products/e_parts/led/7seg/four/0_56inch/TOF-5462BS-1N.pdf; ComponentLink2Description: Mouser; ComponentLink2URL: -
footprint DIP1524W75P254L5030H825Q12N
pins: 1 A_E, 2 A_D, 3 A_D.P., 4 A_C, 5 A_G, 6 COMMON_K_(DIGIT_4), 7 A_B, 8 COMMON_K_(DIGIT_3), 9 COMMON_K_(DIGIT_2), 10 A_F, 11 A_A, 12 COMMON_K_(DIGIT_1)

## TSX9292IDT
designator IC?
Integrated Circuit; Manufacturer_Name: STMicroelectronics; Manufacturer_Part_Number: TSX9292IDT; Height: 1.75mm; ComponentLink1Description: ST Link; ComponentLink1URL: http://www.st.com/st-web-ui/static/active/en/resource/technical/document/datasheet/DM00082871.pdf
footprint SOIC____8
pins: 1 OUT1, 2 IN1-, 3 IN1+, 4 VCC-, 5 IN2+, 6 IN2-, 7 OUT2, 8 VCC+

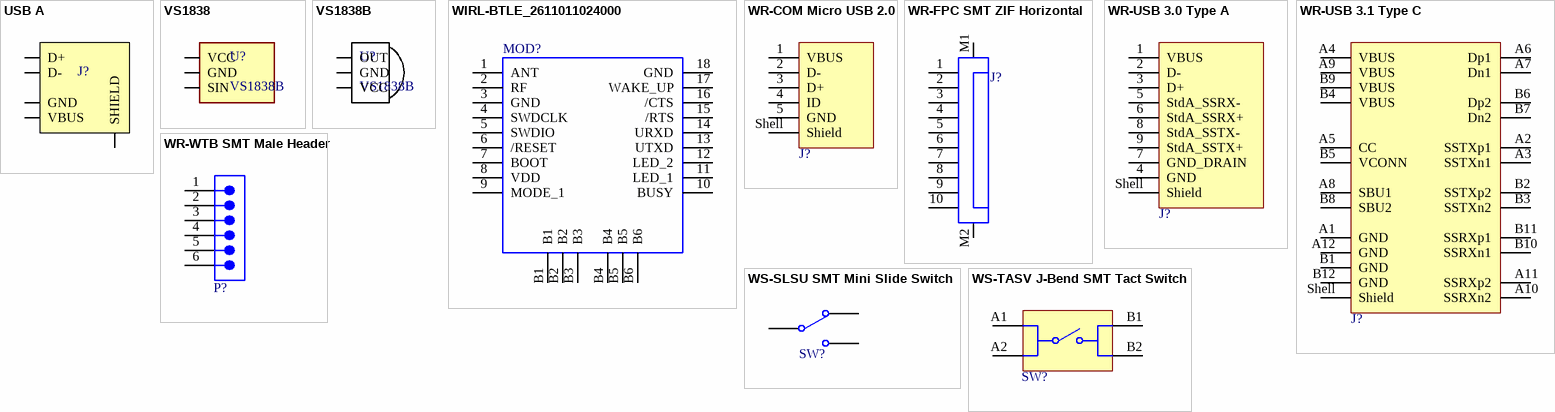
[diagram p1: symbols USB A to WS-TASV J-Bend SMT Tact Switch]

## USB A
designator J?, comment 896-30-004-00-000000  (value not drawn)
JACK USB A 4 PIN SMD; Manufacturer: Mill-Max; Gender: Jack (Female); Number of Contacts: 4; Number of Ports: 1; Current Rating: 1A; Library Control - Checked Footprint: Yes; Library Control - Person that Checked Footprint: Nícolas; ComponentLink1Description: Datasheet; ComponentLink1URL: https://www.mouser.com/datasheet/2/273/148-259756.pdf; ComponentLink2Description: Mouser Link; ComponentLink2URL: https://www.mouser.com/ProductDetail/Mill-Max/896-30-004-00-000000?qs=D%252By4jQJzx8JJoHwL%252BZMxXQ%3D%3D; Part Number: 896-30-004-00-000000; Price: 1=1.89, 10=1.54 (USD); Termination Type: SMD/SMT; Supplier 1: Mouser; Library Ref: Diversos; Supplier Part Number 1: 575-896340; Library Control - Checked Schematic: Yes; Library Control - Person that Checked Schematic: Nícolas
footprint USB TYPE A
pins: D+, D-, GND, S SHIELD, VBUS

## VS1838
designator U?, comment VS1838B
INFRARED RECEIVER MODULE; Sensitivity: +/- 45°; Output Type: Digital; Operating Supply Current: 0.4 mA; Supply Voltage (Min - Máx): (2.7 - 5.5)V; Library Control - Person that did the Last Update in Footprint: Marcos; ComponentLink1Description: Datasheet; ComponentLink1URL: https://datasheetspdf.com/pdf-file/700398/ETC/VS1838B/1; ComponentLink2Description: Mouser Link; ComponentLink2URL: -; Part Number: VS1838B; Sensor Type: Infrared; Price: -; Package / Case: -; Operating Temperature (Min - Máx): -20~80 °C; Supplier 1: -; Manufacturer: -; Library Ref: Diversos; Library Control - Last Update: 06/08/2021; Library Control - Person that did the Last Update in Schematic: Marcos
footprint FEMALE HEADER 3
pins: PIN1 VCC, PIN2 GND, PIN3 SIN

## VS1838B
designator U?
Infrered receiver module 38khz
footprint VS1838B
pins: GND, OUT, VCC

## WIRL-BTLE_2611011024000
designator MOD?
Proteus-III - Bluetooth® LE 5.1 Module; Part Number: 2611011024000; RX sensitivity e.r.p.: –; Line of Sight Range: 400; Frequency: 2402-2480MHz; Operating Supply Voltage max.: 3.6V; Operating Supply Voltage min.: 1.8V; RF Bitrate max.: 2000kbps; ComponentLink1Description: Manufacturer; ComponentLink1URL: http://www.we-online.de; ComponentLink2Description: Datasheet; ComponentLink2URL: https://katalog.we-online.de/wco/datasheet/2611011024000.pdf; Published Date: April 2019; Publisher: Wurth Elektronik; Operating Temperature: -40 to +85degC; Mounting Technology: SMT; Packaging: Tape and Reel; Output Power e.r.p.: –
footprint WE-FP-4+
pins: 1 ANT, 2 RF, 3 GND, 4 SWDCLK, 5 SWDIO, 6 /RESET, 7 BOOT, 8 VDD, 9 MODE_1, 10 BUSY, 11 LED_1, 12 LED_2, 13 UTXD, 14 URXD, 15 /RTS, 16 /CTS, 17 WAKE_UP, 18 GND, B1, B2, B3, B4, B5, B6

## WR-COM Micro USB 2.0
designator J?, comment 629105136821  (value not drawn)
WR-COM Micro USB 2.0 SMT Type B Horizontal 5 Contacts; Manufacturer: Wurth Elektronik; Match Code: WR-USB; Gender: Receptacle; Interface Type: Type B; Number of Ports: 1; Rated Current: 1A; Working Voltage: 30V (AC); Manufacturer Part Number: 629105136821; Category: Input/Output Connectors; ComponentLink1Description: Website Link; ComponentLink1URL: https://www.we-online.com/redexpert/article/629105136821?ad; ComponentLink2Description: Datasheet Link; ComponentLink2URL: https://www.we-online.com/redexpert/spec/629105136821?ad; Mount: Surface Mount; Operating Temperature Max: 105°C; Operating Temperature Min: -40°C; Packaging: Tape and Reel; Application: Micro USB 2.0; Number of Pins: 5; Orientation: Horizontal
footprint 629105136821
pins: 1 VBUS, 2 D-, 3 D+, 4 ID, 5 GND, Shell Shield

## WR-FPC SMT ZIF Horizontal
designator J?, comment 687110149022  (value not drawn)
WR-FPC SMT ZIF Horizontal Bottom Contact, pitch 0.5mm, Horizontal, 10pins; Manufacturer: Wurth Elektronik; Contact Resistance: 50mΩ; Rated Current: 0.5A; Working Voltage: 50VAC; ComponentLink1Description: Website Link; ComponentLink1URL: https://www.we-online.com/redexpert/article/687110149022?ad; ComponentLink2Description: Datasheet Link; ComponentLink2URL: https://www.we-online.com/redexpert/spec/687110149022?ad; Manufacturer Part Number: 687110149022; Category: FPC Connectors; Match Code: WR-FPC; Mount: Surface Mount; Operating Temperature Max: 105°C; Operating Temperature Min: -40°C; Packaging: Tape and Reel; Length: 9.1mm; Width: 6.5mm; Height: 2.2mm; Number of Pins: 10; Orientation: Horizontal; Pitch: 0.5mm
footprint 687110149022
pins: 1, 2, 3, 4, 5, 6, 7, 8, 9, 10, M1, M2

## WR-USB 3.0 Type A
designator J?, comment 692122030100  (value not drawn)
WR-USB 3.0 Type A, Receptacle, Horizontal, SMT; Manufacturer: Wurth Elektronik; Interface Type: Type A; Number of Ports: 1; Rated Current: 1.8A; Working Voltage: 30VAC; ComponentLink1Description: Website Link; ComponentLink1URL: https://www.we-online.com/redexpert/article/692122030100?ad; ComponentLink2Description: Datasheet Link; ComponentLink2URL: https://www.we-online.com/redexpert/spec/692122030100?ad; Manufacturer Part Number: 692122030100; Category: Input/Output Connectors; Match Code: WR-USB; Mount: Surface Mount; Operating Temperature Max: 85°C; Operating Temperature Min: -20°C; Packaging: Tape and Reel; Application: USB 3.0; Gender: Receptacle; Number of Pins: 9; Orientation: Horizontal
footprint 692122030100
pins: 1 VBUS, 2 D-, 3 D+, 4 GND, 5 StdA_SSRX-, 6 StdA_SSRX+, 7 GND_DRAIN, 8 StdA_SSTX-, 9 StdA_SSTX+, Shell Shield

## WR-USB 3.1 Type C
designator J?, comment 632723130112  (value not drawn)
WR-USB 3.1 Type C, Receptacle, Horizontal, THR; Manufacturer: Wurth Elektronik; Interface Type: Type C; Number of Ports: 1; Rated Current: 5A; Working Voltage: 20VAC; ComponentLink1Description: Website Link; ComponentLink1URL: https://www.we-online.com/redexpert/article/632723130112?ad; ComponentLink2Description: Datasheet Link; ComponentLink2URL: https://www.we-online.com/redexpert/spec/632723130112?ad; Manufacturer Part Number: 632723130112; Category: Input/Output Connectors; Match Code: WR-USB; Mount: Surface Mount; Operating Temperature Max: 85°C; Operating Temperature Min: -40°C; Packaging: Tape and Reel; Application: USB 3.1; Gender: Receptacle; Number of Pins: 24; Orientation: Horizontal
footprint 632723130112
pins: A1 GND, A2 SSTXp1, A3 SSTXn1, A4 VBUS, A5 CC, A6 Dp1, A7 Dn1, A8 SBU1, A9 VBUS, A10 SSRXn2, A11 SSRXp2, A12 GND, B1 GND, B2 SSTXp2, B3 SSTXn2, B4 VBUS, B5 VCONN, B6 Dp2, B7 Dn2, B8 SBU2, B9 VBUS, B10 SSRXn1, B11 SSRXp1, B12 GND, Shell Shield

## WR-WTB SMT Male Header
designator P?, comment 620106131822  (value not drawn)
WR-WTB SMT Male Horizontal Shrouded Header, pitch 2mm, 6pins; Manufacturer: Wurth Elektronik; Contact Resistance: 20mΩ; Rated Current: 2A; Working Voltage: 100VAC; Withstanding Voltage: 800VAC; ComponentLink1Description: Website Link; ComponentLink1URL: https://www.we-online.com/redexpert/article/620106131822?ad; ComponentLink2Description: Datasheet Link; ComponentLink2URL: https://www.we-online.com/redexpert/spec/620106131822?ad; Manufacturer Part Number: 620106131822; Category: Wire-to-Board Connectors; Match Code: WR-WTB; Mount: Surface Mount; Operating Temperature Max: 85°C; Operating Temperature Min: -25°C; Packaging: Tape and Reel; Length: 16mm; Width: 8.6mm; Height: 5.5mm; Gender: Male; Number of Pins: 6; Number of Rows: 1; Orientation: Horizontal; Pitch: 2mm
footprint 620106131822
pins: 1, 2, 3, 4, 5, 6

## WS-SLSU SMT Mini Slide Switch
designator SW?, comment 450405020524  (value not drawn)
WS-SLSU SMT Mini Slide Switch Same Side Connection, SPDT, 5VDC, 300mA, 225g; Manufacturer: Wurth Elektronik; ComponentLink1Description: Website Link; ComponentLink1URL: https://www.we-online.com/redexpert/article/450405020524?ad; ComponentLink2Description: Datasheet Link; ComponentLink2URL: https://www.we-online.com/redexpert/spec/450405020524?ad; Manufacturer Part Number: 450405020524; Category: Slide Switches; Match Code: WS-SLSU; Mount: Surface Mount; Operating Temperature Max: 85°C; Operating Temperature Min: -40°C; Packaging: Tape and Reel; Length: 8.7mm; Width: 3mm; Height: 2mm; Circuit: SPDT; Contact Material: Copper Alloy; Contact Plating: Silver; Operation Force: 225g; Rated Current: 300mA; Rated Voltage: 5VDC; Terminal Material: Copper Alloy; Terminal Plating: Silver
footprint 450405020524
pins: COM, L1, L2

## WS-TASV J-Bend SMT Tact Switch
designator SW?, comment 434153017835  (value not drawn)
WS-TASV J-Bend SMT Tact Switch, L3.5 x W2.9 x H1.7mm, 350g, SPST-NO, 12V, 50mA; Manufacturer: Wurth Elektronik; Washable: No; Manufacturer Part Number: 434153017835; Category: Tact Switches; Match Code: WS-TASV; ComponentLink1Description: Website Link; ComponentLink1URL: https://www.we-online.com/redexpert/article/434153017835?ad; ComponentLink2Description: Datasheet Link; ComponentLink2URL: https://www.we-online.com/redexpert/spec/434153017835?ad; Mount: Surface Mount; Operating Temperature Max: 85°C; Operating Temperature Min: -40°C; Packaging: Tape and Reel; Length: 3.5mm; Width: 2.9mm; Height: 1.7mm; Circuit: SPST-NO; Contact Material: Stainless Steel; Contact Plating: Silver; Operation Force: 350g; Rated Current: 50mA; Rated Voltage (DC): 12V; Terminal Material: Copper Alloy; Terminal Plating: Silver
footprint WS-TASV_L3.5W2.9H1.7_434153017835
pins: A1, A2, B1, B2